# EAGLE library part TPS259472ARPWR (library TPS259472ARPWR)
Hot Swap Voltage Controllers 2.7-V to 23-V, 28-m?, 5.5-A eFuse with integrated reverse polarity protection Source: Datasheet <https://www.ti.com/lit/ds/symlink/tps25947.pdf?ts=1761904658681&ref_url=https%3A%2F%2Fwww.mouser.tw%2F>
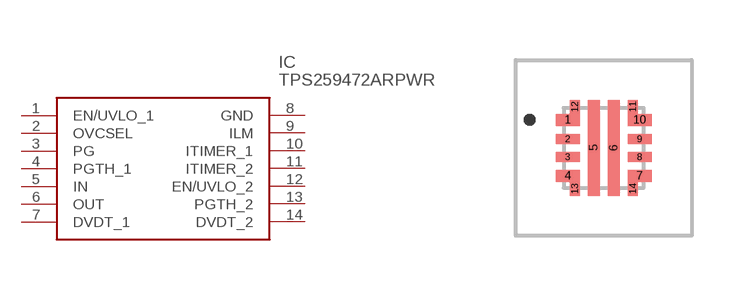
[diagram p0: symbol with the pads of TPS259472ARPWR; footprint TPS259472ARPWR]

Designator prefix IC

## TPS259472ARPWR (Description: Hot Swap Voltage Controllers 2.7-V to 23-V, 28-m?, 5.5-A eFuse with integrated reverse polarity protection; Height: 1mm; Manufacturer_Name: Texas Instruments; Manufacturer_Part_Number: TPS259472ARPWR; Mouser_Part_Number: 595-TPS259472ARPWR; Mouser_Price-Stock: https://www.mouser.co.uk/ProductDetail/Texas-Instruments/TPS259472ARPWR?qs=iLbezkQI%252BshCnrYg81AACA%3D%3D)  [TPS259472ARPWR]
1  EN/UVLO_1
2  OVCSEL
3  PG
4  PGTH_1
5  IN
6  OUT
7  DVDT_1
8  GND
9  ILM
10  ITIMER_1
11  ITIMER_2
12  EN/UVLO_2
13  PGTH_2
14  DVDT_2

## Footprint TPS259472ARPWR (pad centres in mm)
RPW0010A_1H
smd 0.6 x 0.3: 1 -0.9,0.7; 4 -0.9,-0.7; 7 0.9,-0.7; 10 0.9,0.7
smd 0.6 x 0.25: 2 -0.9,0.225; 3 -0.9,-0.225; 8 0.9,-0.225; 9 0.9,0.225
smd 0.3 x 2.4: 5 -0.25,0; 6 0.25,0
smd 0.25 x 0.35: 11 0.725,1.025; 12 -0.725,1.025; 13 -0.725,-1.025; 14 0.725,-1.025